# Altium footprint library Jump.PcbLib: 91 footprints (part 6 of 6)
Each footprint in its own frame and in the unit in brackets; x right, y up, seen from the top. Pads: shape width x height; smd on the part's side, far side on the other; paste and mask are expansions set on the pad; w line width, h text height; cw(c..) or ccw(c..) is an arc to the next point about the centre after c.
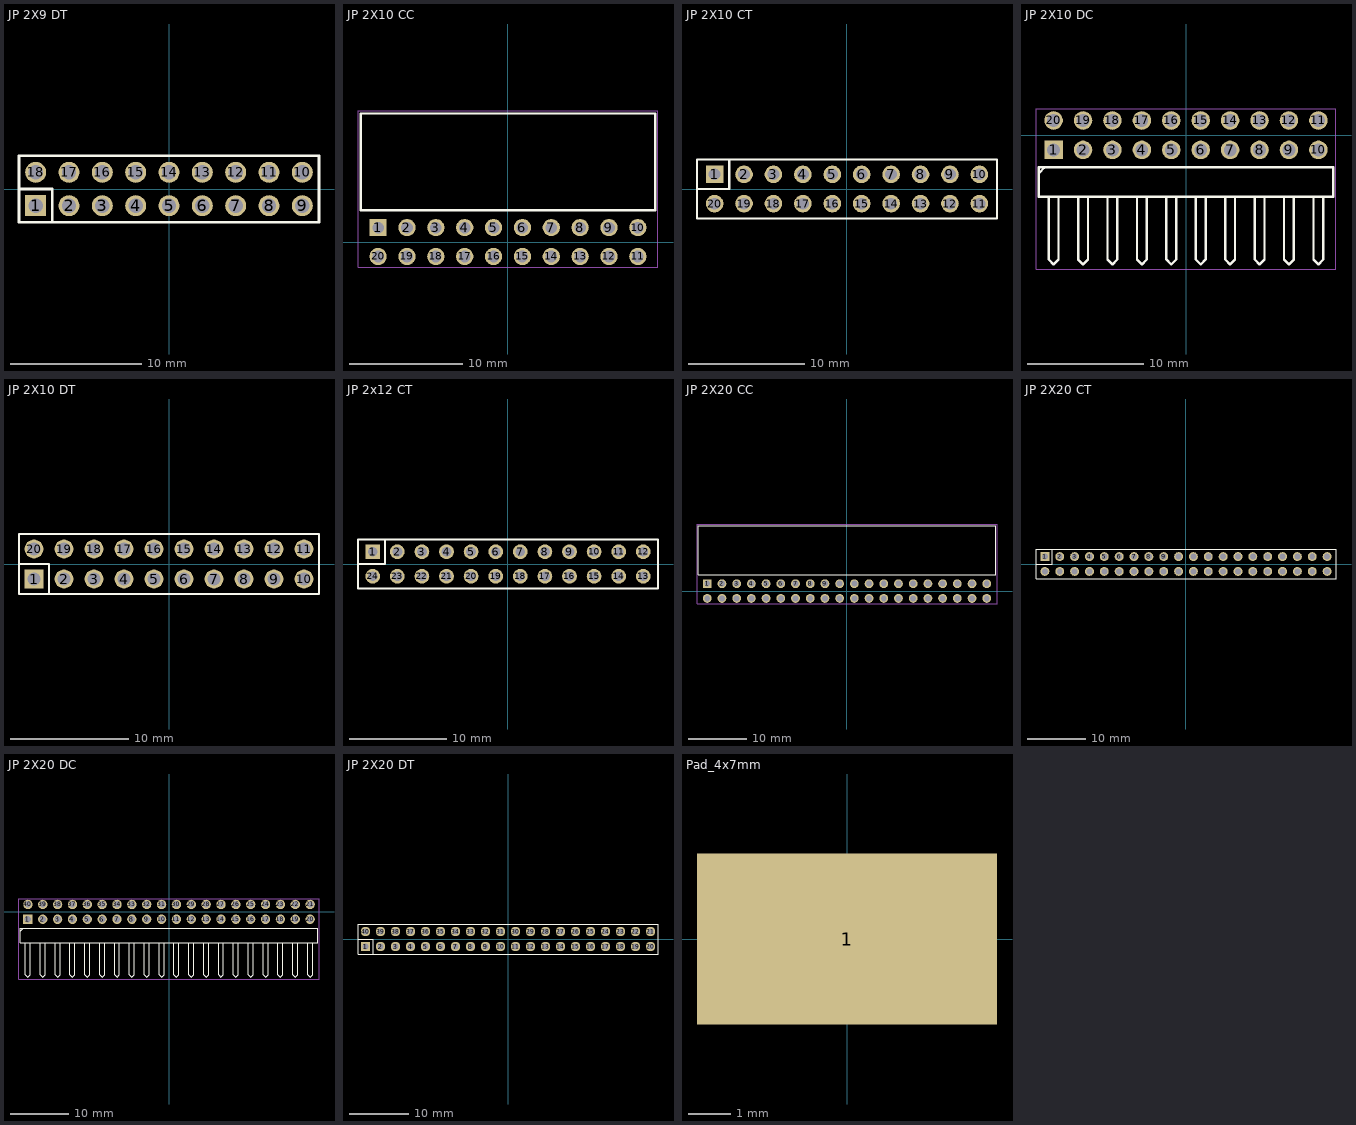
[diagram p5: the footprints below, top view; thin cyan lines are the x and y axes]

## JP 2X9 DT [mm] "18 pins, dual pin, straight, gold plating"
height 8.54
pads (18):
  rect 1.6x1.6 hole 1.1: 1(-10.16,-1.27)
  round 1.6 hole 1.1: 2(-7.62,-1.27) 3(-5.08,-1.27) 4(-2.54,-1.27) 5(0,-1.27) 6(2.54,-1.27) 7(5.08,-1.27) 8(7.62,-1.27) 9(10.16,-1.27) 10(10.16,1.27) 11(7.62,1.27) 12(5.08,1.27) 13(2.54,1.27) 14(0,1.27) 15(-2.54,1.27) 16(-5.08,1.27) 17(-7.62,1.27) 18(-10.16,1.27)
Top Overlay:
  lines w0.2: -11.43,0 -8.89,0 -8.89,-2.54 ; -11.43,-2.54 11.43,-2.54 11.43,2.54 -11.43,2.54 -11.43,-2.54
3D body "61301821121.stp": height 8.55, standoff -2.99, extent -11.43,-2.54 11.43,2.54

## JP 2X10 CC [mm] "20p 2 rows Right angle"
height 5.08
pads (20):
  rect 1.52x1.52 hole 1.02: 1(-11.43,1.27)
  round 1.52 hole 1.02: 2(-8.89,1.27) 3(-6.35,1.27) 4(-3.81,1.27) 5(-1.27,1.27) 6(1.27,1.27) 7(3.81,1.27) 8(6.35,1.27) 9(8.89,1.27) 10(11.43,1.27) 11(11.43,-1.27) 12(8.89,-1.27) 13(6.35,-1.27) 14(3.81,-1.27) 15(1.27,-1.27) 16(-1.27,-1.27) 17(-3.81,-1.27) 18(-6.35,-1.27) 19(-8.89,-1.27) 20(-11.43,-1.27)
Top Overlay:
  lines w0.2: -12.954,2.794 -12.954,11.316 12.954,11.316 12.954,2.794 -12.954,2.794
Mechanical 15:
  lines w0.1: -13.2,-2.23 -13.2,11.566 13.204,11.566 13.204,-2.23 -13.2,-2.23
3D body "613020243121.stp": height 5.09, standoff -4.46, extent -12.95,-1.478 12.95,11.362

## JP 2X10 CT [mm] "20 pins, dual row, straight, gold plating"
height 8.5
pads (20):
  rect 1.52x1.52 hole 1.02: 1(-11.43,1.27)
  round 1.52 hole 1.02: 2(-8.89,1.27) 3(-6.35,1.27) 4(-3.81,1.27) 5(-1.27,1.27) 6(1.27,1.27) 7(3.81,1.27) 8(6.35,1.27) 9(8.89,1.27) 10(11.43,1.27) 11(11.43,-1.27) 12(8.89,-1.27) 13(6.35,-1.27) 14(3.81,-1.27) 15(1.27,-1.27) 16(-1.27,-1.27) 17(-3.81,-1.27) 18(-6.35,-1.27) 19(-8.89,-1.27) 20(-11.43,-1.27)
Top Overlay:
  lines w0.2: -12.95,0 -10.16,0 -10.16,2.54 ; -12.95,-2.54 12.95,-2.54 12.95,2.54 -12.95,2.54 -12.95,-2.54
3D body "61302021821.stp": height 8.51, standoff -3.09, extent -12.95,-2.54 12.95,2.54

## JP 2X10 DC [mm] "20 pins, dual row, right angled, gold plating"
height 5.08
pads (20):
  rect 1.6x1.6 hole 1.1: 1(-11.43,-1.27)
  round 1.6 hole 1.1: 2(-8.89,-1.27) 3(-6.35,-1.27) 4(-3.81,-1.27) 5(-1.27,-1.27) 6(1.27,-1.27) 7(3.81,-1.27) 8(6.35,-1.27) 9(8.89,-1.27) 10(11.43,-1.27) 11(11.43,1.27) 12(8.89,1.27) 13(6.35,1.27) 14(3.81,1.27) 15(1.27,1.27) 16(-1.27,1.27) 17(-3.81,1.27) 18(-6.35,1.27) 19(-8.89,1.27) 20(-11.43,1.27)
Top Overlay:
  lines w0.2: -12.658,-3.236 -12.234,-2.812 ; -11.853,-5.335 -11.853,-10.729 -11.43,-11.152 -11.007,-10.729 -11.007,-5.31 ; -9.313,-5.335 -9.313,-10.729 -8.89,-11.152 -8.467,-10.729 -8.467,-5.335 ; -6.773,-5.335 -6.773,-10.729 -6.35,-11.152 -5.927,-10.729 -5.927,-5.31 ; -4.233,-5.335 -4.233,-10.729 -3.81,-11.152 -3.387,-10.729 -3.387,-5.335 ; -1.693,-5.335 -1.693,-10.729 -1.27,-11.152 -0.847,-10.729 -0.847,-5.31 ; 0.847,-5.335 0.847,-10.729 1.27,-11.152 1.693,-10.729 1.693,-5.335 ; 3.387,-5.335 3.387,-10.729 3.81,-11.152 4.233,-10.729 4.233,-5.31 ; 5.927,-5.335 5.927,-10.729 6.35,-11.152 6.773,-10.729 6.773,-5.335 ; 8.467,-5.335 8.467,-10.729 8.89,-11.152 9.313,-10.729 9.313,-5.31 ; 11.007,-5.335 11.007,-10.729 11.43,-11.152 11.853,-10.729 11.853,-5.335 ; -12.7,-5.31 12.7,-5.31 12.7,-2.77 -12.7,-2.77 -12.7,-5.31
Mechanical 15:
  lines w0.1: -12.95,-11.56 12.95,-11.56 12.95,2.27 -12.95,2.27 -12.95,-11.56
3D body "61302021021.stp": height 5.09, standoff -2.99, extent -12.7,-11.334 12.7,1.566

## JP 2X10 DT [mm] "20 pins, dual pin, straight, gold plating"
height 8.54
pads (20):
  rect 1.6x1.6 hole 1.1: 1(-11.43,-1.27)
  round 1.6 hole 1.1: 2(-8.89,-1.27) 3(-6.35,-1.27) 4(-3.81,-1.27) 5(-1.27,-1.27) 6(1.27,-1.27) 7(3.81,-1.27) 8(6.35,-1.27) 9(8.89,-1.27) 10(11.43,-1.27) 11(11.43,1.27) 12(8.89,1.27) 13(6.35,1.27) 14(3.81,1.27) 15(1.27,1.27) 16(-1.27,1.27) 17(-3.81,1.27) 18(-6.35,1.27) 19(-8.89,1.27) 20(-11.43,1.27)
Top Overlay:
  lines w0.2: -12.7,0 -10.16,0 -10.16,-2.54 ; -12.7,-2.54 -12.7,2.54 12.7,2.54 12.7,-2.54 -12.7,-2.54
3D body "61302021121.stp": height 8.55, standoff -2.99, extent -12.7,-2.54 12.7,2.54

## JP 2x12 CT [mm] "24 pins, dual row, straight, gold plating"
height 8.5
pads (24):
  rect 1.52x1.52 hole 1.02: 1(-13.97,1.27)
  round 1.52 hole 1.02: 2(-11.43,1.27) 3(-8.89,1.27) 4(-6.35,1.27) 5(-3.81,1.27) 6(-1.27,1.27) 7(1.27,1.27) 8(3.81,1.27) 9(6.35,1.27) 10(8.89,1.27) 11(11.43,1.27) 12(13.97,1.27) 13(13.97,-1.27) 14(11.43,-1.27) 15(8.89,-1.27) 16(6.35,-1.27) 17(3.81,-1.27) 18(1.27,-1.27) 19(-1.27,-1.27) 20(-3.81,-1.27) 21(-6.35,-1.27) 22(-8.89,-1.27) 23(-11.43,-1.27) 24(-13.97,-1.27)
Top Overlay:
  lines w0.2: -15.49,0 -12.7,0 -12.7,2.54 ; -15.49,-2.54 15.49,-2.54 15.49,2.54 -15.49,2.54 -15.49,-2.54
3D body "61302421821.stp": height 8.51, standoff -3.09, extent -15.49,-2.54 15.49,2.54

## JP 2X20 CC [mm] "40p 2 rows Right angle"
height 5.08
pads (40):
  rect 1.52x1.52 hole 1.02: 1(-24.13,1.27)
  round 1.52 hole 1.02: 2(-21.59,1.27) 3(-19.05,1.27) 4(-16.51,1.27) 5(-13.97,1.27) 6(-11.43,1.27) 7(-8.89,1.27) 8(-6.35,1.27) 9(-3.81,1.27) 10(-1.27,1.27) 11(1.27,1.27) 12(3.81,1.27) 13(6.35,1.27) 14(8.89,1.27) 15(11.43,1.27) 16(13.97,1.27) 17(16.51,1.27) 18(19.05,1.27) 19(21.59,1.27) 20(24.13,1.27) 21(24.13,-1.27) 22(21.59,-1.27) 23(19.05,-1.27) 24(16.51,-1.27) 25(13.97,-1.27) 26(11.43,-1.27) 27(8.89,-1.27) 28(6.35,-1.27) 29(3.81,-1.27) 30(1.27,-1.27) 31(-1.27,-1.27) 32(-3.81,-1.27) 33(-6.35,-1.27) 34(-8.89,-1.27) 35(-11.43,-1.27) 36(-13.97,-1.27) 37(-16.51,-1.27) 38(-19.05,-1.27) 39(-21.59,-1.27) 40(-24.13,-1.27)
Top Overlay:
  lines w0.2: -25.654,2.794 -25.654,11.316 25.654,11.316 25.654,2.794 -25.654,2.794
Mechanical 15:
  lines w0.1: -25.9,-2.23 -25.9,11.566 25.904,11.566 25.904,-2.23 -25.9,-2.23
3D body "613040243121.stp": height 5.09, standoff -4.46, extent -25.65,-1.478 25.65,11.362

## JP 2X20 CT [mm] "40 pins, dual row, straight, gold plating"
height 8.5
pads (40):
  rect 1.52x1.52 hole 1.02: 1(-24.13,1.27)
  round 1.52 hole 1.02: 2(-21.59,1.27) 3(-19.05,1.27) 4(-16.51,1.27) 5(-13.97,1.27) 6(-11.43,1.27) 7(-8.89,1.27) 8(-6.35,1.27) 9(-3.81,1.27) 10(-1.27,1.27) 11(1.27,1.27) 12(3.81,1.27) 13(6.35,1.27) 14(8.89,1.27) 15(11.43,1.27) 16(13.97,1.27) 17(16.51,1.27) 18(19.05,1.27) 19(21.59,1.27) 20(24.13,1.27) 21(24.13,-1.27) 22(21.59,-1.27) 23(19.05,-1.27) 24(16.51,-1.27) 25(13.97,-1.27) 26(11.43,-1.27) 27(8.89,-1.27) 28(6.35,-1.27) 29(3.81,-1.27) 30(1.27,-1.27) 31(-1.27,-1.27) 32(-3.81,-1.27) 33(-6.35,-1.27) 34(-8.89,-1.27) 35(-11.43,-1.27) 36(-13.97,-1.27) 37(-16.51,-1.27) 38(-19.05,-1.27) 39(-21.59,-1.27) 40(-24.13,-1.27)
Top Overlay:
  lines w0.2: -25.65,0 -22.86,0 -22.86,2.54 ; -25.65,-2.54 25.65,-2.54 25.65,2.54 -25.65,2.54 -25.65,-2.54
3D body "61304021821.stp": height 8.51, standoff -3.09, extent -25.65,-2.54 25.65,2.54

## JP 2X20 DC [mm] "40 pins, dual row, right angled, gold plating"
height 5.08
pads (40):
  rect 1.6x1.6 hole 1.1: 1(-24.13,-1.27)
  round 1.6 hole 1.1: 2(-21.59,-1.27) 3(-19.05,-1.27) 4(-16.51,-1.27) 5(-13.97,-1.27) 6(-11.43,-1.27) 7(-8.89,-1.27) 8(-6.35,-1.27) 9(-3.81,-1.27) 10(-1.27,-1.27) 11(1.27,-1.27) 12(3.81,-1.27) 13(6.35,-1.27) 14(8.89,-1.27) 15(11.43,-1.27) 16(13.97,-1.27) 17(16.51,-1.27) 18(19.05,-1.27) 19(21.59,-1.27) 20(24.13,-1.27) 21(24.13,1.27) 22(21.59,1.27) 23(19.05,1.27) 24(16.51,1.27) 25(13.97,1.27) 26(11.43,1.27) 27(8.89,1.27) 28(6.35,1.27) 29(3.81,1.27) 30(1.27,1.27) 31(-1.27,1.27) 32(-3.81,1.27) 33(-6.35,1.27) 34(-8.89,1.27) 35(-11.43,1.27) 36(-13.97,1.27) 37(-16.51,1.27) 38(-19.05,1.27) 39(-21.59,1.27) 40(-24.13,1.27)
Top Overlay:
  lines w0.2: -25.358,-3.236 -24.934,-2.812 ; -24.553,-5.335 -24.553,-10.729 -24.13,-11.152 -23.707,-10.729 -23.707,-5.31 ; -22.013,-5.335 -22.013,-10.729 -21.59,-11.152 -21.167,-10.729 -21.167,-5.335 ; -19.473,-5.335 -19.473,-10.729 -19.05,-11.152 -18.627,-10.729 -18.627,-5.31 ; -16.933,-5.335 -16.933,-10.729 -16.51,-11.152 -16.087,-10.729 -16.087,-5.335 ; -14.393,-5.335 -14.393,-10.729 -13.97,-11.152 -13.547,-10.729 -13.547,-5.31 ; -11.853,-5.335 -11.853,-10.729 -11.43,-11.152 -11.007,-10.729 -11.007,-5.335 ; -9.313,-5.335 -9.313,-10.729 -8.89,-11.152 -8.467,-10.729 -8.467,-5.31 ; -6.773,-5.335 -6.773,-10.729 -6.35,-11.152 -5.927,-10.729 -5.927,-5.335 ; -4.233,-5.335 -4.233,-10.729 -3.81,-11.152 -3.387,-10.729 -3.387,-5.31 ; -1.693,-5.335 -1.693,-10.729 -1.27,-11.152 -0.847,-10.729 -0.847,-5.335 ; 0.847,-5.335 0.847,-10.729 1.27,-11.152 1.693,-10.729 1.693,-5.31 ; 3.387,-5.335 3.387,-10.729 3.81,-11.152 4.233,-10.729 4.233,-5.335 ; 5.927,-5.335 5.927,-10.729 6.35,-11.152 6.773,-10.729 6.773,-5.31 ; 8.467,-5.335 8.467,-10.729 8.89,-11.152 9.313,-10.729 9.313,-5.335 ; 11.007,-5.335 11.007,-10.729 11.43,-11.152 11.853,-10.729 11.853,-5.31 ; 13.547,-5.335 13.547,-10.729 13.97,-11.152 14.393,-10.729 14.393,-5.335 ; 16.087,-5.335 16.087,-10.729 16.51,-11.152 16.933,-10.729 16.933,-5.31 ; 18.627,-5.335 18.627,-10.729 19.05,-11.152 19.473,-10.729 19.473,-5.335 ; 21.167,-5.335 21.167,-10.729 21.59,-11.152 22.013,-10.729 22.013,-5.31 ; 23.707,-5.335 23.707,-10.729 24.13,-11.152 24.553,-10.729 24.553,-5.335 ; -25.4,-5.31 -25.4,-2.77 25.4,-2.77 25.4,-5.31 -25.4,-5.31
Mechanical 15:
  lines w0.1: -25.65,-11.56 25.65,-11.56 25.65,2.27 -25.65,2.27 -25.65,-11.56
3D body "61304021021.stp": height 5.09, standoff -2.99, extent -25.4,-11.334 25.4,1.566

## JP 2X20 DT [mm] "40 pins, dual pin, straight, gold plating"
height 8.54
pads (40):
  rect 1.6x1.6 hole 1.1: 1(-24.13,-1.27)
  round 1.6 hole 1.1: 2(-21.59,-1.27) 3(-19.05,-1.27) 4(-16.51,-1.27) 5(-13.97,-1.27) 6(-11.43,-1.27) 7(-8.89,-1.27) 8(-6.35,-1.27) 9(-3.81,-1.27) 10(-1.27,-1.27) 11(1.27,-1.27) 12(3.81,-1.27) 13(6.35,-1.27) 14(8.89,-1.27) 15(11.43,-1.27) 16(13.97,-1.27) 17(16.51,-1.27) 18(19.05,-1.27) 19(21.59,-1.27) 20(24.13,-1.27) 21(24.13,1.27) 22(21.59,1.27) 23(19.05,1.27) 24(16.51,1.27) 25(13.97,1.27) 26(11.43,1.27) 27(8.89,1.27) 28(6.35,1.27) 29(3.81,1.27) 30(1.27,1.27) 31(-1.27,1.27) 32(-3.81,1.27) 33(-6.35,1.27) 34(-8.89,1.27) 35(-11.43,1.27) 36(-13.97,1.27) 37(-16.51,1.27) 38(-19.05,1.27) 39(-21.59,1.27) 40(-24.13,1.27)
Top Overlay:
  lines w0.2: -25.4,0 -22.86,0 -22.86,-2.54 ; -25.4,-2.54 25.4,-2.54 25.4,2.54 -25.4,2.54 -25.4,-2.54
3D body "61304021121.stp": height 8.55, standoff -2.99, extent -25.4,-2.54 25.4,2.54

## Pad_4x7mm [mm]
pads (1):
  rect 7x4 smd: 1(0,0)